# EAGLE library part Z8581 (library oldchips)
Clock generator and controller
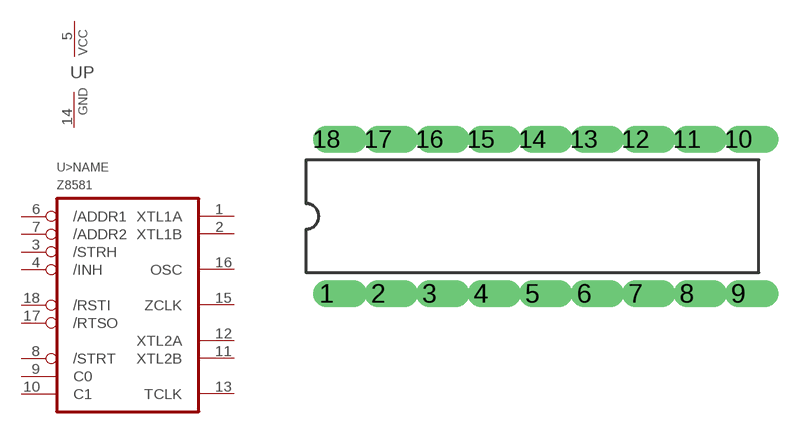
[diagram p12: symbol with the pads of DIL18; footprint DIL18]

Designator prefix U; gates P=PWRN >NAME=Z8581

## Z8581  [DIL18]
1  >NAME:XTL1A  in
2  >NAME:XTL1B  out
3  >NAME:/STRH  in
4  >NAME:/INH  in
5  P:VCC  pwr
6  >NAME:/ADDR1  in
7  >NAME:/ADDR2  in
8  >NAME:/STRT  in
9  >NAME:C0  out
10  >NAME:C1  out
11  >NAME:XTL2B  out
12  >NAME:XTL2A  in
13  >NAME:TCLK  out
14  P:GND  pwr
15  >NAME:ZCLK  out
16  >NAME:OSC  out
17  >NAME:/RTSO  out
18  >NAME:/RSTI  in

## Footprint DIL18 (pad centres in mm)
Dual In Line
drill 0.813 offset: 1 -10.16,-3.81; 2 -7.62,-3.81; 3 -5.08,-3.81; 4 -2.54,-3.81; 5 0,-3.81; 6 2.54,-3.81; 7 5.08,-3.81; 8 7.62,-3.81; 9 10.16,-3.81; 10 10.16,3.81; 11 7.62,3.81; 12 5.08,3.81; 13 2.54,3.81; 14 0,3.81; 15 -2.54,3.81; 16 -5.08,3.81; 17 -7.62,3.81; 18 -10.16,3.81